# Altium schematic symbol library Formula-HF2S.SchLib: 2 symbols
Pins are listed as number, name and electrical type; pins without a type are passive.

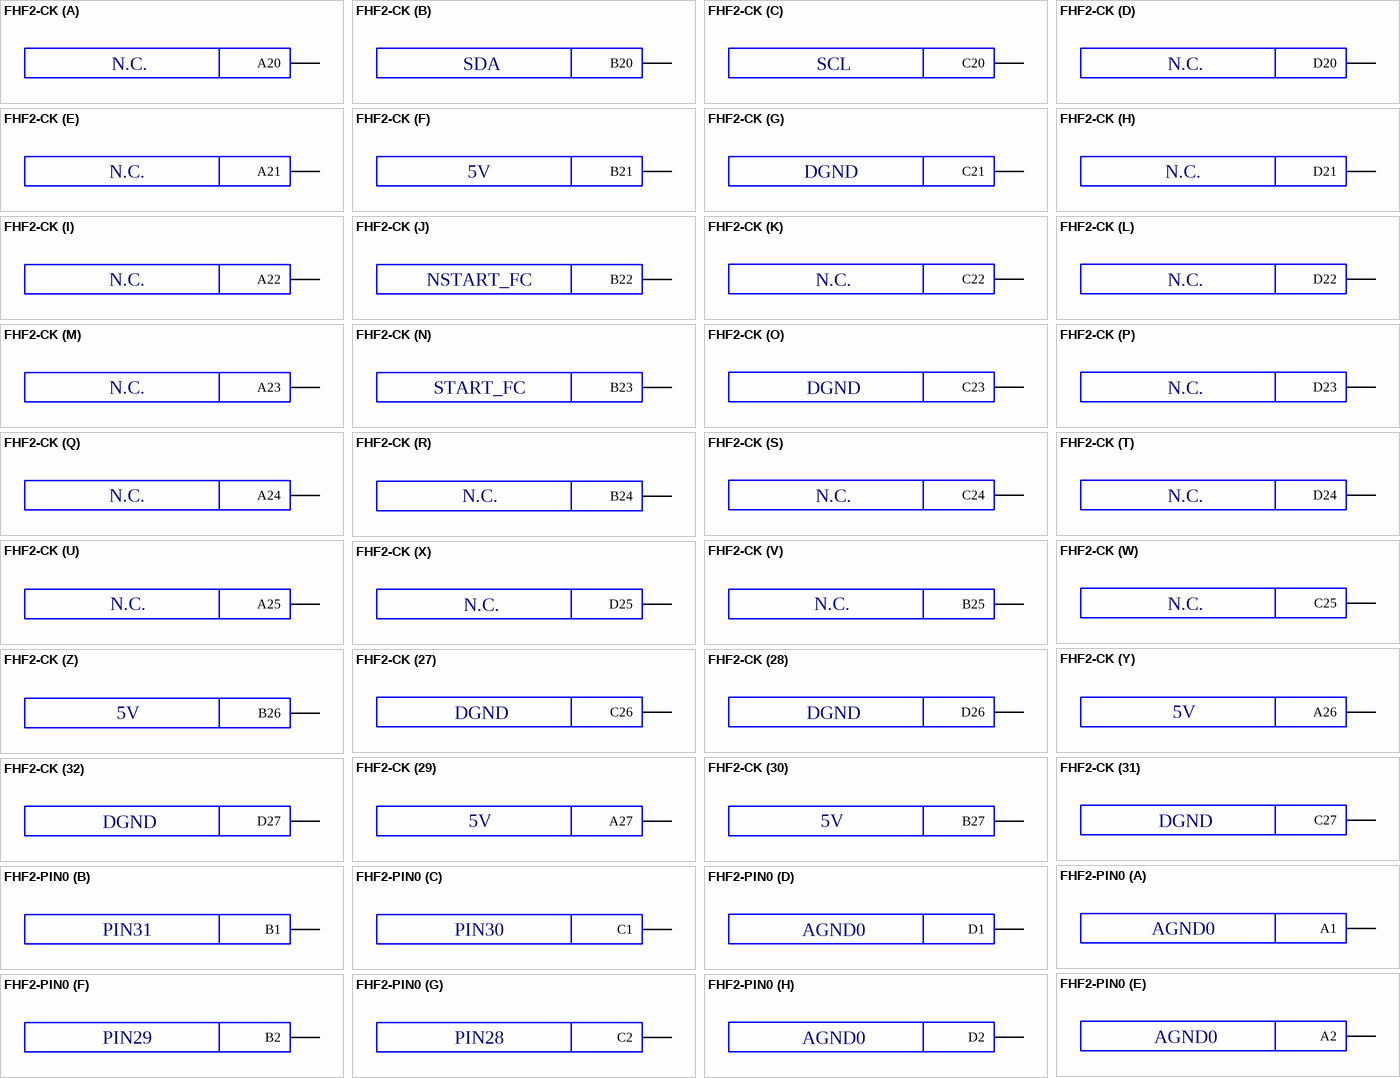
[diagram p0: symbols FHF2-CK to FHF2-PIN0]

## FHF2-CK
designator XC?  (no BOM)
Formula-HF2 CK; NetName: *
part A pins: A20
part B pins: B20
part C pins: C20
part D pins: D20
part E pins: A21
part F pins: B21
part G pins: C21
part H pins: D21
part I pins: A22
part J pins: B22
part K pins: C22
part L pins: D22
part M pins: A23
part N pins: B23
part O pins: C23
part P pins: D23
part Q pins: A24
part R pins: B24
part S pins: C24
part T pins: D24
part U pins: A25
part V pins: B25
part W pins: C25
part X pins: D25
part Y pins: A26
part Z pins: B26
part 27 pins: C26
part 28 pins: D26
part 29 pins: A27
part 30 pins: B27
part 31 pins: C27
part 32 pins: D27
1 alternate drawing of the same symbol
part A text: N.C.
part B text: SDA
part C text: SCL
part D text: N.C.
part E text: N.C.
part F text: 5V
part G text: DGND
part H text: N.C.
part I text: N.C.
part J text: NSTART_FC
part K text: N.C.
part L text: N.C.
part M text: N.C.
part N text: START_FC
part O text: DGND
part P text: N.C.
part Q text: N.C.
part R text: N.C.
part S text: N.C.
part T text: N.C.
part U text: N.C.
part V text: N.C.
part W text: N.C.
part X text: N.C.
part Y text: 5V
part Z text: 5V
part 27 text: DGND
part 28 text: DGND
part 29 text: 5V
part 30 text: 5V
part 31 text: DGND
part 32 text: DGND

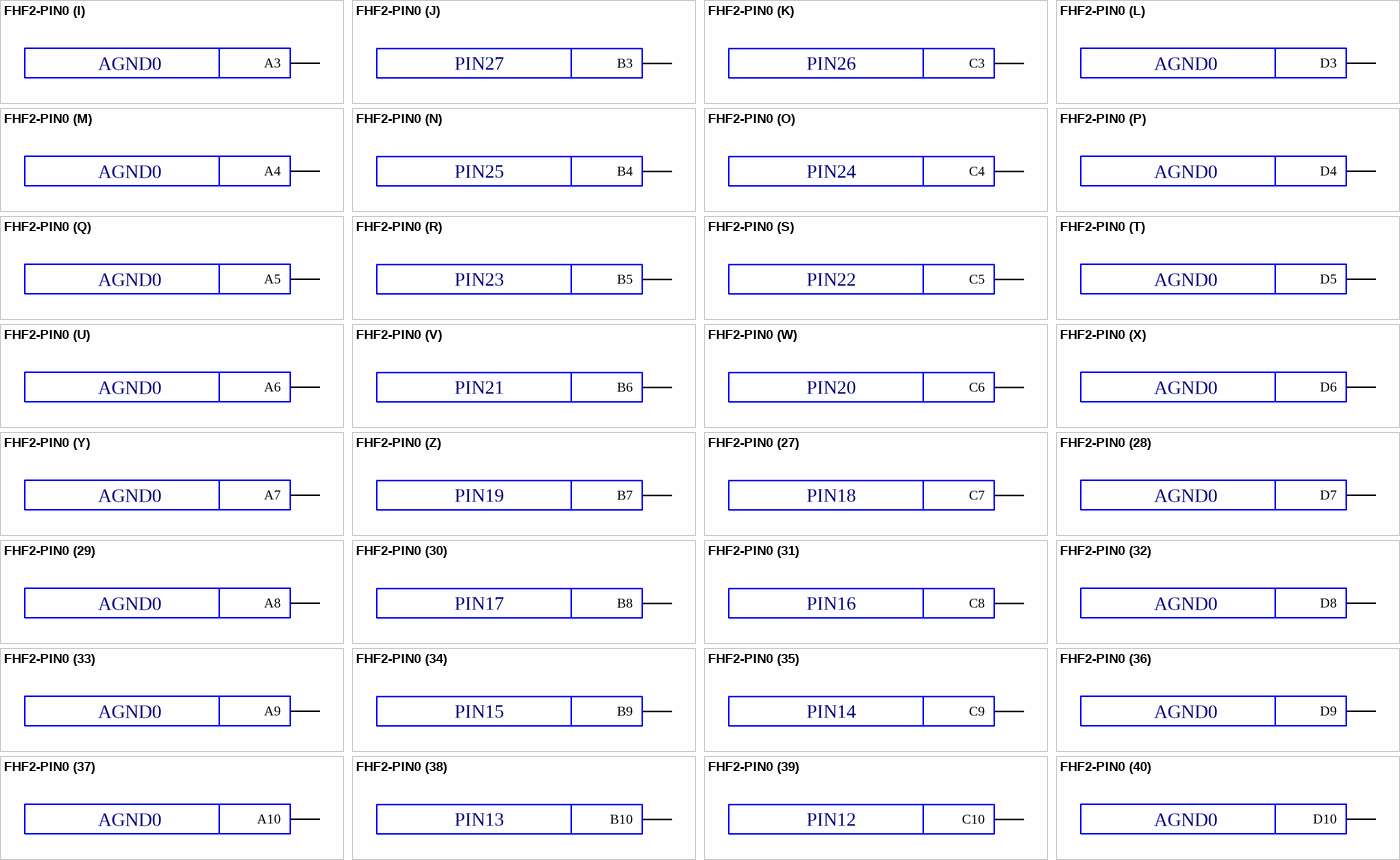
[diagram p1: symbol FHF2-PIN0]

## FHF2-PIN0
designator XC?  (no BOM)
Formula-HF2 PIN0; NetName: *
part A pins: A1
part B pins: B1
part C pins: C1
part D pins: D1
part E pins: A2
part F pins: B2
part G pins: C2
part H pins: D2
part I pins: A3
part J pins: B3
part K pins: C3
part L pins: D3
part M pins: A4
part N pins: B4
part O pins: C4
part P pins: D4
part Q pins: A5
part R pins: B5
part S pins: C5
part T pins: D5
part U pins: A6
part V pins: B6
part W pins: C6
part X pins: D6
part Y pins: A7
part Z pins: B7
part 27 pins: C7
part 28 pins: D7
part 29 pins: A8
part 30 pins: B8
part 31 pins: C8
part 32 pins: D8
part 33 pins: A9
part 34 pins: B9
part 35 pins: C9
part 36 pins: D9
part 37 pins: A10
part 38 pins: B10
part 39 pins: C10
part 40 pins: D10
part 41 pins: A11
part 42 pins: B11
part 43 pins: C11
part 44 pins: D11
part 45 pins: A12
part 46 pins: B12
part 47 pins: C12
part 48 pins: D12
part 49 pins: A13
part 50 pins: B13
part 51 pins: C13
part 52 pins: D13
part 53 pins: A14
part 54 pins: B14
part 55 pins: C14
part 56 pins: D14
part 57 pins: A15
part 58 pins: B15
part 59 pins: C15
part 60 pins: D15
part 61 pins: A16
part 62 pins: B16
part 63 pins: C16
part 64 pins: D16
part 65 pins: A20
part 66 pins: B20
part 67 pins: C20
part 68 pins: D20
part 69 pins: A21
part 70 pins: B21
part 71 pins: C21
part 72 pins: D21
part 73 pins: A22
part 74 pins: B22
part 75 pins: C22
part 76 pins: D22
part 77 pins: A23
part 78 pins: B23
part 79 pins: C23
part 80 pins: D23
part 81 pins: A24
part 82 pins: B24
part 83 pins: C24
part 84 pins: D24
part 85 pins: A25
part 86 pins: B25
part 87 pins: C25
part 88 pins: D25
part 89 pins: A26
part 90 pins: B26
part 91 pins: C26
part 92 pins: D26
part 93 pins: A27
part 94 pins: B27
part 95 pins: C27
part 96 pins: D27
1 alternate drawing of the same symbol
part A text: AGND0
part B text: PIN31
part C text: PIN30
part D text: AGND0
part E text: AGND0
part F text: PIN29
part G text: PIN28
part H text: AGND0
part I text: AGND0
part J text: PIN27
part K text: PIN26
part L text: AGND0
part M text: AGND0
part N text: PIN25
part O text: PIN24
part P text: AGND0
part Q text: AGND0
part R text: PIN23
part S text: PIN22
part T text: AGND0
part U text: AGND0
part V text: PIN21
part W text: PIN20
part X text: AGND0
part Y text: AGND0
part Z text: PIN19
part 27 text: PIN18
part 28 text: AGND0
part 29 text: AGND0
part 30 text: PIN17
part 31 text: PIN16
part 32 text: AGND0
part 33 text: AGND0
part 34 text: PIN15
part 35 text: PIN14
part 36 text: AGND0
part 37 text: AGND0
part 38 text: PIN13
part 39 text: PIN12
part 40 text: AGND0
part 41 text: AGND0
part 42 text: PIN11
part 43 text: PIN10
part 44 text: AGND0
part 45 text: AGND0
part 46 text: PIN9
part 47 text: PIN8
part 48 text: AGND0
part 49 text: AGND0
part 50 text: PIN7
part 51 text: PIN6
part 52 text: AGND0
part 53 text: AGND0
part 54 text: PIN5
part 55 text: PIN4
part 56 text: AGND0
part 57 text: AGND0
part 58 text: PIN3
part 59 text: PIN2
part 60 text: AGND0
part 61 text: AGND0
part 62 text: PIN1
part 63 text: PIN0
part 64 text: AGND0
part 65 text: COM0
part 66 text: COM0
part 67 text: COM0
part 68 text: COM0
part 69 text: N.C.
part 70 text: N.C.
part 71 text: N.C.
part 72 text: N.C.
part 73 text: VDD0_F
part 74 text: VDD0_F
part 75 text: AGND0
part 76 text: AGND0
part 77 text: VDD0_S
part 78 text: VDD0_F
part 79 text: AGND0
part 80 text: AGND0
part 81 text: VCC0_F
part 82 text: VCC0_F
part 83 text: AGND_VCC0
part 84 text: AGND_VCC0
part 85 text: VCC0_F
part 86 text: VCC0_F
part 87 text: AGND_VCC0
part 88 text: AGND_VCC0
part 89 text: VCC0_F
part 90 text: VCC0_F
part 91 text: AGND_VCC0
part 92 text: AGND_VCC0
part 93 text: VCC0_S
part 94 text: VCC0_F
part 95 text: AGND_VCC0
part 96 text: AGND_VCC0